# Altium footprint library SSCLib1.PcbLib: 25 footprints (part 1 of 2)
Each footprint in its own frame and in the unit in brackets; x right, y up, seen from the top. Pads: shape width x height; smd on the part's side, far side on the other; paste and mask are expansions set on the pad; w line width, h text height; cw(c..) or ccw(c..) is an arc to the next point about the centre after c.
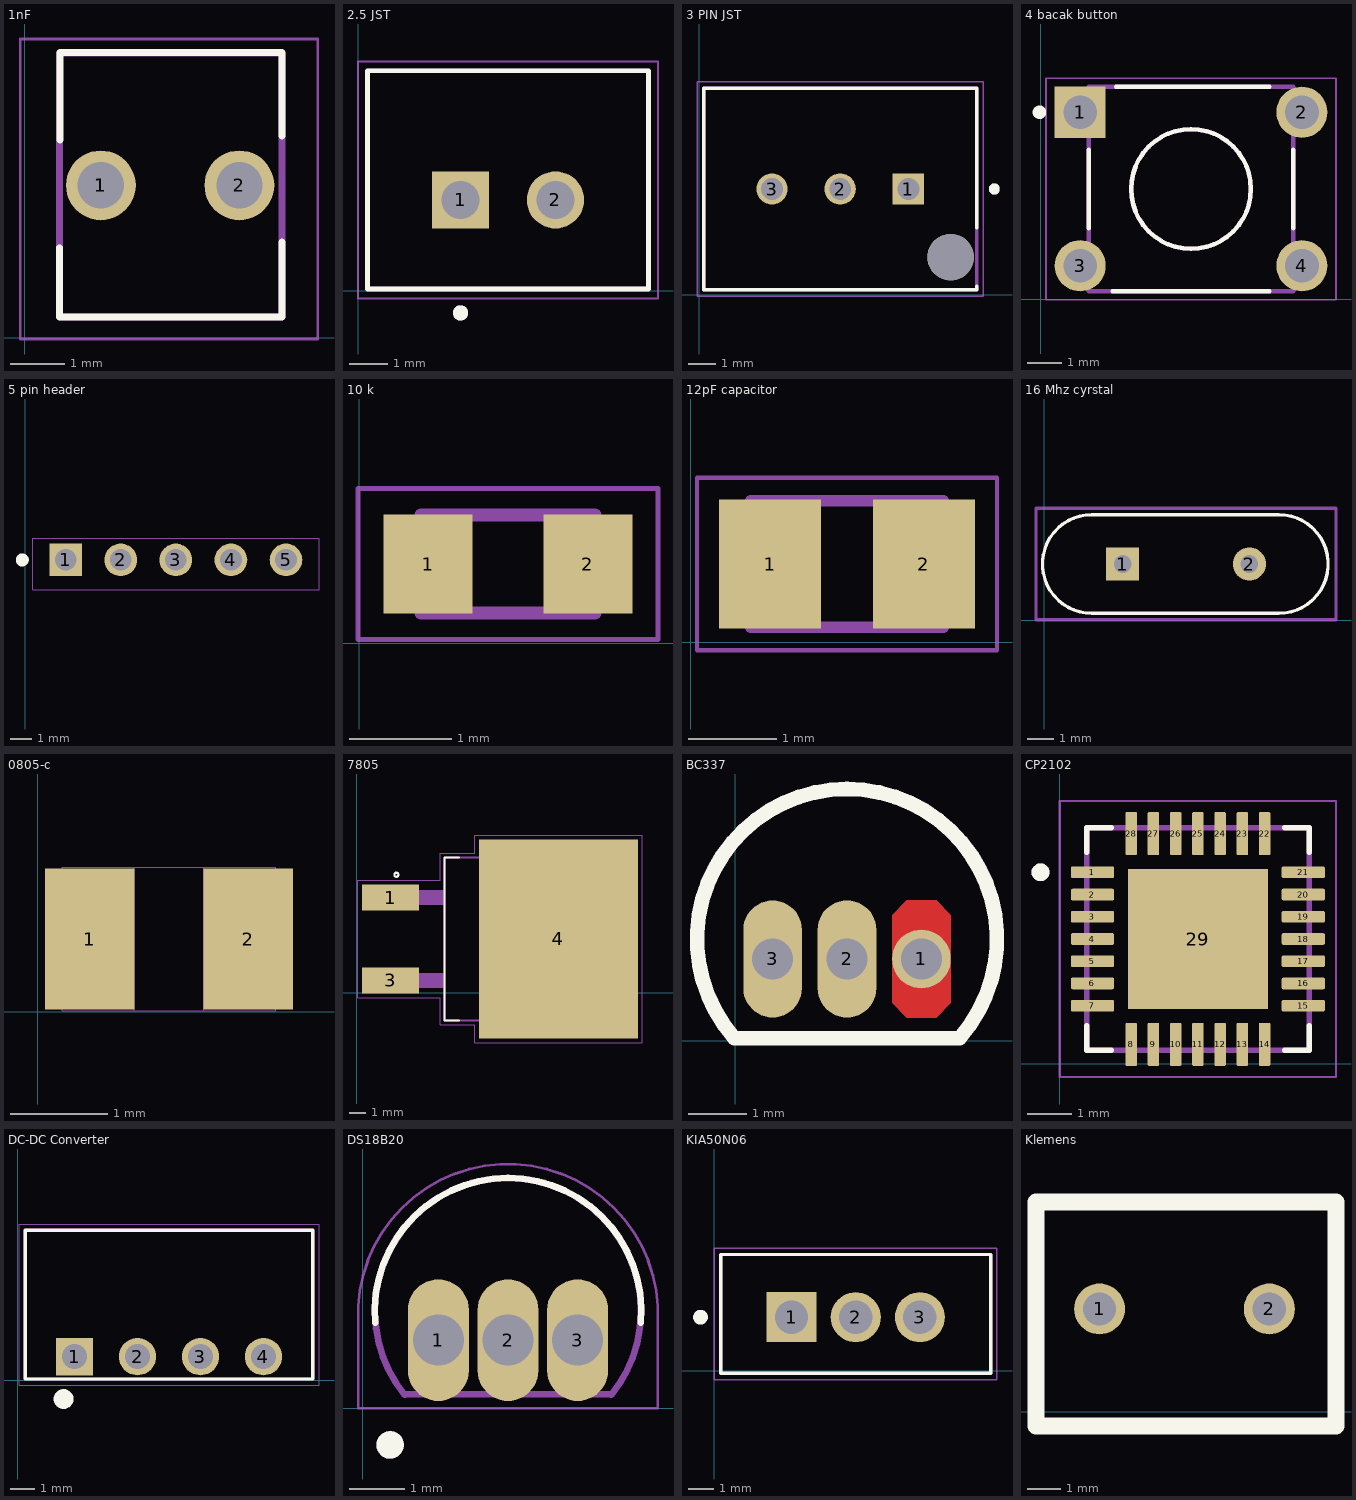
[diagram p0: the footprints below, top view; thin cyan lines are the x and y axes]

## 1nF [mm]
pads (5):
  round 1.28 hole 0.85: 1(1.397,2.794) 1(1.397,2.794) 1(1.397,2.794) 1(1.397,2.794) 2(3.937,2.794)
Top Overlay:
  lines w0.127: 0.635,1.651 0.635,0.381 4.699,0.381 ; 0.65,3.625 0.65,5.228 1.668,5.228 3.703,5.228 4.721,5.228 4.721,3.703 ; 4.721,0.381 4.721,1.753
Mechanical 13:
  lines w0.127: 0.635,0.381 4.721,0.381 4.721,5.225 0.635,5.225 0.635,0.381
Mechanical 15:
  lines w0.05: -0.08,-0.022 5.371,-0.022 5.371,5.478 -0.08,5.478 -0.08,-0.022
3D body "c315c102j3h5ta91707301.stp": height 3.5, standoff -16.5, extent 0.762,1.524 4.572,4.069

## 2.5 JST [mm]
pads (2):
  rect 1.508x1.508 hole 1: 1(2.687,2.396)
  round 1.508 hole 1: 2(5.187,2.396)
Top Overlay:
  circle w0.2: c2.687,-0.579 r0.1
  lines w0.127: 0.237,0.046 0.237,5.796 7.637,5.796 7.637,0.046 0.237,0.046
Mechanical 13:
  circle w0.2: c2.687,-0.579 r0.1
  lines w0.127: 0.237,0.046 0.237,5.796 7.637,5.796 7.637,0.046 0.237,0.046
Mechanical 15:
  lines w0.05: -0.013,-0.204 -0.013,6.046 7.887,6.046 7.887,-0.204 -0.013,-0.204
3D body "User Library-JST B2B-PH-K-S.step": height 6, standoff -3.4, extent 0.987,0.58 6.887,5.08

## 3 PIN JST [mm]
pads (4):
  rect 1.15x1.15 hole 0.8: 1(7.675,3.878)
  round 1.15 hole 0.8: 2(5.175,3.878) 3(2.675,3.878)
  round 1.7 hole 1.7 unplated: ""(9.225,1.378)
Top Overlay:
  circle w0.2: c10.825,3.878 r0.1
  lines w0.127: 10.175,0.307 10.175,0.188 0.175,0.188 0.175,7.568 10.175,7.568 10.175,2.449
Mechanical 13:
  circle w0.2: c10.825,3.878 r0.1
  lines w0.127: 0.175,0.188 0.175,7.568 10.175,7.568 10.175,0.188 ; 0.175,0.188 10.175,0.188 ; 0.175,0.188 10.175,0.188
Mechanical 15:
  lines w0.05: -0.075,-0.062 -0.075,7.818 10.425,7.818 10.425,-0.062 -0.075,-0.062
3D body "User Library-jst-b3b-xh-a.step": height 7, standoff -3.4, extent 0.125,1.525 10.025,7.275

## 4 bacak button [mm]
pads (4):
  rect 1.498x1.498 hole 0.99: 1(1.15,5.475)
  round 1.498 hole 0.99: 2(7.65,5.475) 3(1.15,0.975) 4(7.65,0.975)
Top Overlay:
  circle w0.127: c4.4,3.225 r1.755
  circle w0.2: c-0.045,5.475 r0.1
  lines w0.127: 1.405,2.075 1.405,4.375 ; 2.1,0.23 6.7,0.23 ; 2.2,6.22 6.7,6.22 ; 7.4,2.075 7.4,4.375
Mechanical 13:
  circle w0.127: c4.4,3.225 r1.755
  lines w0.127: 1.405,0.23 1.405,6.22 7.395,6.22 7.395,0.23 1.405,0.23
Mechanical 15:
  lines w0.05: 0.15,-0.025 0.15,6.475 8.65,6.475 8.65,-0.025 0.15,-0.025
3D body "Push Tactile Button SPST-NO 6x6mm L=5mm Omron B3F-1020.stp": height 4, standoff -3.5, extent 0.55,0.15 8.25,6.15

## 5 pin header [mm]
pads (5):
  rect 1.508x1.508 hole 1: 1(1.869,9.704)
  round 1.508 hole 1: 2(4.409,9.704) 3(6.949,9.704) 4(9.489,9.704) 5(12.029,9.704)
Top Overlay:
  circle w0.3: c-0.131,9.704 r0.15
Mechanical 16:
  lines w0.05: 0.349,8.325 0.349,10.704 13.549,10.704 13.549,8.325 0.349,8.325
3D body "User Library-Header_Male_RA_Low_5Pin.STEP": height 2.51, standoff -3, extent 0.7,0 13.4,10.13

## 10 k [mm]
pads (2):
  rect 0.87x0.97 smd: 1(0.671,0.776) 2(2.231,0.776)
Mechanical 13:
  lines w0.127: 0.601,0.296 0.601,1.256 2.301,1.256 2.301,0.296 0.601,0.296
Mechanical 15:
  lines w0.05: -0.014,0.039 -0.014,1.513 2.916,1.513 2.916,0.039 -0.014,0.039
3D body "rsmd-0603_l1-6_w0-8_h0-45.stp": height 0.45, standoff 0, extent 0.7,0.375 2.3,1.175

## 12pF capacitor [mm]
pads (2):
  rect 1.16x1.47 smd: 1(0.903,0.889) 2(2.653,0.889)
Mechanical 13:
  lines w0.127: 0.678,0.169 0.678,1.609 2.878,1.609 2.878,0.169 0.678,0.169
Mechanical 15:
  lines w0.05: 0.07,-0.094 0.07,1.872 3.486,1.872 3.486,-0.094 0.07,-0.094
3D body "c0805c120j5gactu.stp": height 0.83, standoff -0.05, extent 0.678,0.201 2.878,1.651

## 16 Mhz cyrstal [mm]
pads (2):
  rect 1.28x1.28 hole 0.68: 1(3.021,2.159)
  round 1.28 hole 0.68: 2(7.901,2.159)
Top Overlay:
  lines w0.127: 9.033,0.259 1.836,0.259 cw(c1.836,2.159) 1.836,4.059 9.036,4.059 ; 9.035,0.259 ccw(c9.035,2.159) 9.035,4.059
Mechanical 15:
  lines w0.127: -0.314,0.009 -0.314,4.309 11.236,4.309 11.236,0.009 -0.314,0.009
3D body "User Library-HC49_Crystal.step": height 3.6, standoff -12.7, extent -0.174,-0.205 11.176,4.445

## 0805-c [mil]
pads (2):
  rect 36x57 smd: 1(20.99,29.41) 2(84.99,29.41)
Mechanical 13:
  lines w0: 38.99,0.41 38.99,58.41 ; 38.99,0.41 9.99,0.41 9.99,58.41 38.99,58.41 ; 38.99,0.41 66.99,0.41 ; 38.99,58.41 66.99,58.41 ; 66.99,0.41 66.99,58.41 ; 66.99,0.41 95.99,0.41 95.99,58.41 66.99,58.41
3D body "csmd-0805_l2-01_w1-25_h1-27.stp": height 50, standoff 0, extent 11.61,3.94 90.75,53.15

## 7805 [mm]
pads (3):
  rect 3.5x1.6 smd: 1(2.063,5.842) 3(2.063,0.762)
  rect 9.75x12.2 smd: 4(12.338,3.302)
Top Overlay:
  circle w0.127: c2.413,7.239 r0.127
  lines w0.127: 6.248,-1.698 5.363,-1.698 5.363,8.302 6.248,8.302
Top Paste:
  region: 8.693,7.132 10.073,7.132 10.073,5.664 8.693,5.664
  region: 10.664,7.132 12.043,7.132 12.043,5.664 10.664,5.664
  region: 8.693,0.942 10.073,0.942 10.073,-0.532 8.693,-0.532
  region: 10.665,0.942 12.043,0.942 12.043,-0.533 10.665,-0.533
  region: 10.665,3.007 12.043,3.007 12.043,1.536 10.665,1.536
  region: 10.665,5.067 12.043,5.067 12.043,3.597 10.665,3.597
  region: 8.693,5.067 10.073,5.067 10.073,3.598 8.693,3.598
  region: 8.693,3.007 10.073,3.007 10.073,1.535 8.693,1.535
  region: 14.613,0.942 15.983,0.942 15.983,-0.535 14.613,-0.535
  region: 12.639,0.942 14.013,0.942 14.013,-0.534 12.639,-0.534
  region: 14.607,7.132 15.983,7.132 15.983,5.664 14.607,5.664
  region: 12.637,7.132 14.013,7.132 14.013,5.664 12.637,5.664
  region: 12.639,5.067 14.013,5.067 14.013,3.597 12.639,3.597
  region: 12.638,3.007 14.013,3.007 14.013,1.535 12.638,1.535
  region: 14.607,3.007 15.983,3.007 15.983,1.536 14.607,1.536
  region: 14.613,5.067 15.983,5.067 15.983,3.597 14.613,3.597
Mechanical 4:
  region: 0.547,1.212 5.363,1.212 5.363,0.306 0.547,0.306
  region: 0.548,6.292 5.363,6.292 5.363,5.396 0.548,5.396
  region: 0.547,1.212 5.363,1.212 5.363,0.306 0.547,0.306
  region: 0.548,6.292 5.363,6.292 5.363,5.396 0.548,5.396
  lines w0.127: 5.363,-1.698 5.363,8.302 ; 5.363,-1.698 16.163,-1.698 ; 5.363,-1.698 5.363,8.302 ; 5.363,-1.698 16.163,-1.698 ; 5.363,8.302 16.163,8.302 ; 5.363,8.302 16.163,8.302 ; 16.163,-1.698 16.163,8.302 ; 16.163,-1.698 16.163,8.302
Mechanical 16:
  lines w0.05: 0.063,-0.298 0.063,6.902 5.113,6.902 5.113,8.552 7.213,8.552 7.213,9.652 17.463,9.652 17.463,-3.048 7.213,-3.048 7.213,-1.948 5.113,-1.948 5.113,-0.298 0.063,-0.298
3D body "7805 TO252.STEP": height 2.32, standoff -0.12, extent 2.138,0.254 11.831,6.754
3D body "7805 TO252.STEP": height 2.32, standoff -0.12, extent 2.609,0.086 12.302,6.586

## BC337 [mm]
pads (3):
  round 1 hole 0.7 mask+0: 1(3.175,1.397)
  oval 1x2 hole 0.7: 2(1.905,1.397) 3(0.635,1.397)
Top Layer:
  region: 3.674,2.147 3.674,0.647 3.425,0.398 2.925,0.398 2.676,0.647 2.676,2.147 2.925,2.396 3.425,2.396
Bottom Layer:
  region: 3.674,2.147 3.674,0.647 3.425,0.398 2.925,0.398 2.676,0.647 2.676,2.147 2.925,2.396 3.425,2.396
Top Overlay:
  lines w0.25: -0.027,0.059 cw(c1.905,1.738) 3.837,0.059 ; -0.016,0.047 3.826,0.047
Top Solder:
  region: 3.777,2.189 3.777,0.605 3.467,0.295 2.883,0.295 2.573,0.605 2.573,2.189 2.883,2.499 3.467,2.499
Bottom Solder:
  region: 3.777,2.189 3.777,0.605 3.467,0.295 2.883,0.295 2.573,0.605 2.573,2.189 2.883,2.499 3.467,2.499
3D body "User Library-BC337 Transistors NPN TO-92 3L (2,54mm).step": height 4.82, standoff -14.7, extent -0.475,-0.074 4.285,3.556

## CP2102 [mm]
pads (29):
  rrect25% 0.97x0.26 smd: 1(0.739,4.309) 2(0.739,3.809) 3(0.739,3.309) 4(0.739,2.809) 5(0.739,2.309) 6(0.739,1.809) 7(0.739,1.309) 15(5.479,1.309) 16(5.479,1.809) 17(5.479,2.309) 18(5.479,2.809) 19(5.479,3.309) 20(5.479,3.809) 21(5.479,4.309)
  rrect25% 0.26x0.97 smd: 8(1.609,0.439) 9(2.109,0.439) 10(2.609,0.439) 11(3.109,0.439) 12(3.609,0.439) 13(4.109,0.439) 14(4.609,0.439) 22(4.609,5.179) 23(4.109,5.179) 24(3.609,5.179) 25(3.109,5.179) 26(2.609,5.179) 27(2.109,5.179) 28(1.609,5.179)
  rect 3.15x3.15 smd paste-3: 29(3.109,2.809)
Top Overlay:
  circle w0.2: c-0.431,4.309 r0.1
  lines w0.127: 0.609,0.859 0.609,0.309 1.159,0.309 ; 0.609,4.759 0.609,5.309 1.159,5.309 ; 5.059,0.309 5.609,0.309 5.609,0.859 ; 5.059,5.309 5.609,5.309 5.609,4.759
Top Paste:
  region: 4.109,1.809 2.109,1.809 2.109,3.809 4.109,3.809
Mechanical 13:
  circle w0.2: c-0.431,4.309 r0.1
  lines w0.127: 0.609,0.309 5.609,0.309 5.609,5.309 0.609,5.309 0.609,0.309
Mechanical 15:
  lines w0.05: 0.004,-0.296 6.214,-0.296 6.214,5.914 0.004,5.914 0.004,-0.296
3D body "User Library-NXP_QFN-24_4x4mm_Pitch0_5mm.STEP": height 0.95, standoff -0.1, extent 1.109,0.809 5.109,4.809

## DC-DC Converter [mm]
pads (4):
  rect 1.508x1.508 hole 1: 1(2.286,0.948)
  round 1.508 hole 1: 2(4.826,0.948) 3(7.366,0.948) 4(9.906,0.948)
Top Overlay:
  circle w0.4: c1.846,-0.762 r0.2
  lines w0.127: 0.296,0.048 11.896,0.048 11.896,6.048 0.296,6.048 0.296,0.048
Mechanical 4:
  circle w0.4: c2.346,0.988 r0.2
  circle w0.4: c2.346,0.988 r0.2
  lines w0.127: 0.296,0.048 11.896,0.048 ; 0.296,0.048 0.296,6.048 ; 0.296,0.048 11.896,0.048 ; 0.296,0.048 0.296,6.048 ; 0.296,6.048 11.896,6.048 ; 0.296,6.048 11.896,6.048 ; 11.896,0.048 11.896,6.048 ; 11.896,0.048 11.896,6.048
Mechanical 16:
  lines w0.05: 0.046,-0.202 12.146,-0.202 12.146,6.298 0.046,6.298 0.046,-0.202
3D body "User Library-4-Lead SIP_AM1S-1205SZ_Aimtec_DC-DC_Converter_1_Watt.step": height 10.03, standoff -3.17, extent 0.254,-0.285 11.938,5.715

## DS18B20 [mm]
pads (3):
  oval 1.11x2.22 hole 0.93: 1(1.379,1.244) 2(2.649,1.244) 3(3.919,1.244)
Top Overlay:
  circle w0.25: c0.499,-0.666 r0.125
  lines w0.12: 0.228,1.56 cw(c2.649,1.772) 5.07,1.56
Mechanical 13:
  circle w0.25: c0.499,-0.666 r0.125
  lines w0.12: 0.756,0.256 4.541,0.256 ; 0.763,0.248 cw(c2.648,1.775) 4.534,0.248
Mechanical 15:
  lines w0.05: -0.082,1.578 cw(c2.649,1.721) 5.38,1.578 ; -0.081,1.554 -0.081,0.004 5.379,0.004 5.379,1.554
3D body "Transistor_TO-92_Type.STEP": height 4.5, standoff -14.5, extent 0.23,-0.1 4.87,3.1

## KIA50N06 [mm]
pads (3):
  rect 1.98x1.98 hole 1.32: 1(3.061,2.118)
  round 1.98 hole 1.32: 2(5.601,2.118) 3(8.141,2.118)
Top Overlay:
  circle w0.3: c-0.539,2.118 r0.141
  lines w0.127: 0.261,-0.102 10.941,-0.102 10.941,4.598 0.261,4.598 0.261,-0.102
Mechanical 4:
  lines w0.127: 0.261,-0.102 0.261,4.598 ; 0.261,-0.102 10.941,-0.102 ; 0.261,-0.102 0.261,4.598 ; 0.261,-0.102 10.941,-0.102 ; 0.261,4.598 10.941,4.598 ; 0.261,4.598 10.941,4.598 ; 10.941,-0.102 10.941,4.598 ; 10.941,-0.102 10.941,4.598
Mechanical 16:
  lines w0.05: 0.011,-0.357 0.011,4.843 11.191,4.843 11.191,-0.357 0.011,-0.357
3D body "TO220.STEP": height 22.86, standoff -8.38, extent 0.3,0.67 10.97,5.6

## Klemens [mm]
pads (2):
  round 1.524 hole 1: 1(2.925,3.071) 2(8.005,3.071)
Top Overlay:
  lines w0.5: 1.025,-0.429 10,-0.429 10,6.271 1.025,6.271 1.025,-0.429
3D body "tb5p-2p_p5_l10_w7-6_h10.stp": height 10, standoff -4.1, extent -0.075,-0.004 10.525,7.596